# Altium schematic symbol library Vishay Draloric Ceramic Disc Capacitor.SchLib: 519 symbols (part 8 of 8)
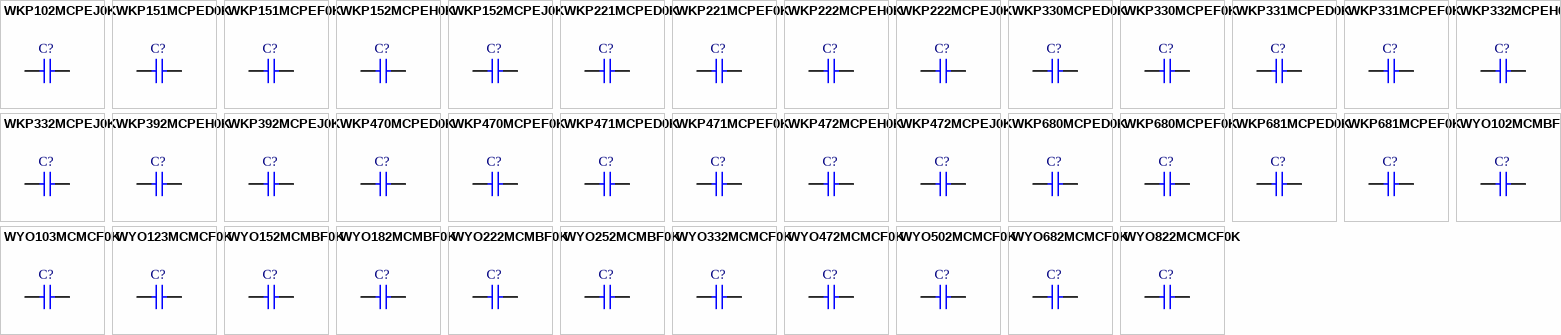
[diagram p19: symbols WKP102MCPEJ0K to WYO822MCMCF0K]

## WYO222MCMBF0K
designator C?
Ceramic AC Capacitor, Class X1 440VAC / Class Y2 250VAC: 2200pF K 4000; Note: See Datasheet for other lead types; Value: 2.2nF; Published: 17-Dec-2003; DatasheetDocument: 2-Aug-2001; PackageDocument: 2-Aug-2001; PackageReference: CAPRD5-9X4.5; Publisher: Altium Limited; ComponentLink1Description: Manufacturer Link; ComponentLink1URL: http://www.vishay.com/; ComponentLink2Description: Datasheet; ComponentLink2URL: http://www.vishay.com/docs/22202/wyo.pdf
footprint CAPRD5-9X4.5 (Capacitor, Ceramic, Thru-Hole, Disc; Body 9 x 4.5 mm (LxW max) Pin Spacing 5 mm (typ))
simulation model CAP (Capacitor)
signal-integrity model Cap
pins: 1, 2

## WYO252MCMBF0K
designator C?
Ceramic AC Capacitor, Class X1 440VAC / Class Y2 250VAC: 2500pF K 4000; Note: See Datasheet for other lead types; Value: 2.5nF; Published: 17-Dec-2003; DatasheetDocument: 2-Aug-2001; PackageDocument: 2-Aug-2001; PackageReference: CAPRD5-9X4.5; Publisher: Altium Limited; ComponentLink1Description: Manufacturer Link; ComponentLink1URL: http://www.vishay.com/; ComponentLink2Description: Datasheet; ComponentLink2URL: http://www.vishay.com/docs/22202/wyo.pdf
footprint CAPRD5-9X4.5 (Capacitor, Ceramic, Thru-Hole, Disc; Body 9 x 4.5 mm (LxW max) Pin Spacing 5 mm (typ))
simulation model CAP (Capacitor)
signal-integrity model Cap
pins: 1, 2

## WYO332MCMCF0K
designator C?
Ceramic AC Capacitor, Class X1 440VAC / Class Y2 250VAC: 3300pF K 4000; Note: See Datasheet for other lead types; Value: 3.3nF; Published: 17-Dec-2003; DatasheetDocument: 2-Aug-2001; PackageDocument: 2-Aug-2001; PackageReference: CAPRD7.5-10X4.5A; Publisher: Altium Limited; ComponentLink1Description: Manufacturer Link; ComponentLink1URL: http://www.vishay.com/; ComponentLink2Description: Datasheet; ComponentLink2URL: http://www.vishay.com/docs/22202/wyo.pdf
footprint CAPRD7.5-10X4.5A (Capacitor, Ceramic, Thru-Hole, Disc; Body 10 x 4.5 mm (LxW max) Pin Spacing 7.5 mm (typ))
simulation model CAP (Capacitor)
signal-integrity model Cap
pins: 1, 2

## WYO472MCMCF0K
designator C?
Ceramic AC Capacitor, Class X1 440VAC / Class Y2 250VAC: 4700pF K 4000; Note: See Datasheet for other lead types; Value: 4.7nF; Published: 17-Dec-2003; DatasheetDocument: 2-Aug-2001; PackageDocument: 2-Aug-2001; PackageReference: CAPRD7.5-12X4.5; Publisher: Altium Limited; ComponentLink1Description: Manufacturer Link; ComponentLink1URL: http://www.vishay.com/; ComponentLink2Description: Datasheet; ComponentLink2URL: http://www.vishay.com/docs/22202/wyo.pdf
footprint CAPRD7.5-12X4.5 (Capacitor, Ceramic, Thru-Hole, Disc; Body 12 x 4.5 mm (LxW max) Pin Spacing 7.5 mm (typ))
simulation model CAP (Capacitor)
signal-integrity model Cap
pins: 1, 2

## WYO502MCMCF0K
designator C?
Ceramic AC Capacitor, Class X1 440VAC / Class Y2 250VAC: 5000pF K 4000; Note: See Datasheet for other lead types; Value: 5nF; Published: 17-Dec-2003; DatasheetDocument: 2-Aug-2001; PackageDocument: 2-Aug-2001; PackageReference: CAPRD7.5-12X4.5; Publisher: Altium Limited; ComponentLink1Description: Manufacturer Link; ComponentLink1URL: http://www.vishay.com/; ComponentLink2Description: Datasheet; ComponentLink2URL: http://www.vishay.com/docs/22202/wyo.pdf
footprint CAPRD7.5-12X4.5 (Capacitor, Ceramic, Thru-Hole, Disc; Body 12 x 4.5 mm (LxW max) Pin Spacing 7.5 mm (typ))
simulation model CAP (Capacitor)
signal-integrity model Cap
pins: 1, 2

## WYO682MCMCF0K
designator C?
Ceramic AC Capacitor, Class X1 440VAC / Class Y2 250VAC: 6800pF K 4000; Note: See Datasheet for other lead types; Value: 6.8nF; Published: 17-Dec-2003; DatasheetDocument: 2-Aug-2001; PackageDocument: 2-Aug-2001; PackageReference: CAPRD7.5-17X4.5; Publisher: Altium Limited; ComponentLink1Description: Manufacturer Link; ComponentLink1URL: http://www.vishay.com/; ComponentLink2Description: Datasheet; ComponentLink2URL: http://www.vishay.com/docs/22202/wyo.pdf
footprint CAPRD7.5-17X4.5 (Capacitor, Ceramic, Thru-Hole, Disc; Body 17 x 4.5 mm (LxW max) Pin Spacing 7.5 mm (typ))
simulation model CAP (Capacitor)
signal-integrity model Cap
pins: 1, 2

## WYO822MCMCF0K
designator C?
Ceramic AC Capacitor, Class X1 440VAC / Class Y2 250VAC: 8200pF K 4000; Note: See Datasheet for other lead types; Value: 8.2nF; Published: 17-Dec-2003; DatasheetDocument: 2-Aug-2001; PackageDocument: 2-Aug-2001; PackageReference: CAPRD7.5-17X4.5; Publisher: Altium Limited; ComponentLink1Description: Manufacturer Link; ComponentLink1URL: http://www.vishay.com/; ComponentLink2Description: Datasheet; ComponentLink2URL: http://www.vishay.com/docs/22202/wyo.pdf
footprint CAPRD7.5-17X4.5 (Capacitor, Ceramic, Thru-Hole, Disc; Body 17 x 4.5 mm (LxW max) Pin Spacing 7.5 mm (typ))
simulation model CAP (Capacitor)
signal-integrity model Cap
pins: 1, 2